# EAGLE library part MAX3221 (library IC)
MAX3221/ICL3221 Single Channel RS232 Line Driver/Receiver
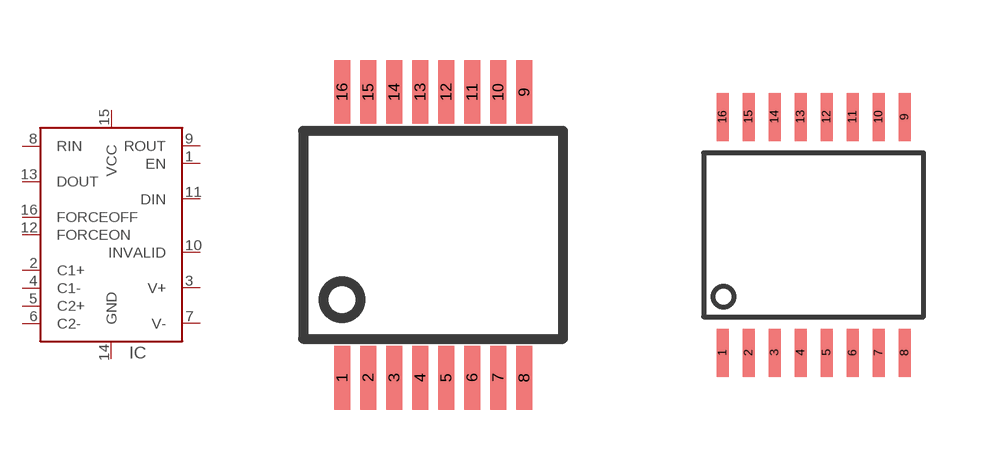
[diagram p121: symbol with the pads of SSOP16; footprints SSOP16, TSSOP16]

Designator prefix IC

## MAX3221DB  [SSOP16]
1  EN
2  C1+
3  V+
4  C1-
5  C2+
6  C2-
7  V-
8  RIN
9  ROUT
10  INVALID
11  DIN
12  FORCEON
13  DOUT
14  GND
15  VCC
16  FORCEOFF

## MAX3221PW  [TSSOP16]
Pads as for SSOP16

## Footprint SSOP16 (pad centres in mm)
smd 0.4 x 1.6: 1 -2.275,-3.575; 2 -1.625,-3.575; 3 -0.975,-3.575; 4 -0.325,-3.575; 5 0.325,-3.575; 6 0.975,-3.575; 7 1.625,-3.575; 8 2.275,-3.575; 9 2.275,3.575; 10 1.625,3.575; 11 0.975,3.575; 12 0.325,3.575; 13 -0.325,3.575; 14 -0.975,3.575; 15 -1.625,3.575; 16 -2.275,3.575

## Footprint TSSOP16 (pad centres in mm)
smd 0.3 x 1.2: 1 -2.275,-2.95; 2 -1.625,-2.95; 3 -0.975,-2.95; 4 -0.325,-2.95; 5 0.325,-2.95; 6 0.975,-2.95; 7 1.625,-2.95; 8 2.275,-2.95; 9 2.275,2.95; 10 1.625,2.95; 11 0.975,2.95; 12 0.325,2.95; 13 -0.325,2.95; 14 -0.975,2.95; 15 -1.625,2.95; 16 -2.275,2.95